# Altium footprint library MCP9808T-E_MS.PcbLib: 2 footprints
Each footprint in its own frame and in the unit in brackets; x right, y up, seen from the top. Pads: shape width x height; smd on the part's side, far side on the other; paste and mask are expansions set on the pad; w line width, h text height; cw(c..) or ccw(c..) is an arc to the next point about the centre after c.
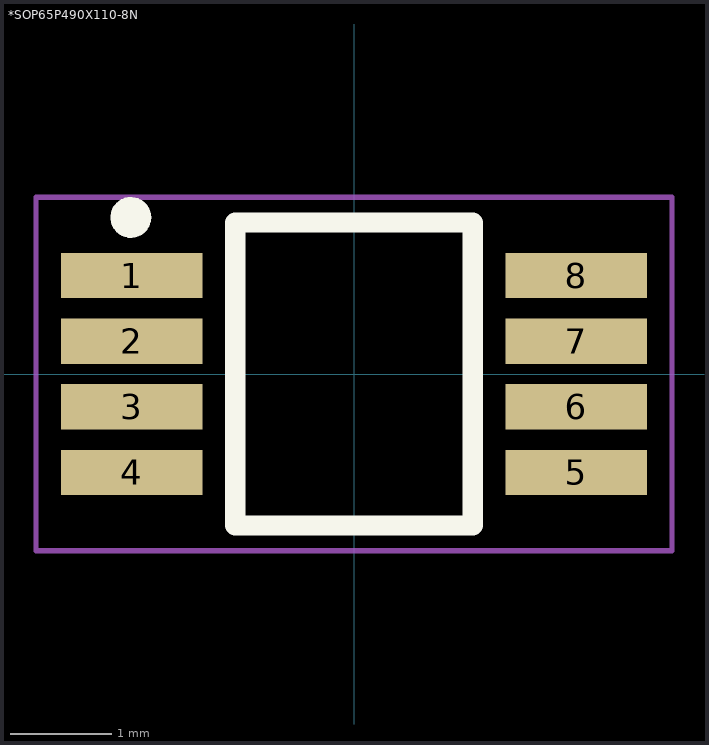
[diagram p0: the footprints below, top view; thin cyan lines are the x and y axes]

## *SOP65P490X110-8N [mm]
pads (8):
  rect 1.4x0.45 smd: 1(-2.2,0.975) 2(-2.2,0.325) 3(-2.2,-0.325) 4(-2.2,-0.975) 5(2.2,-0.975) 6(2.2,-0.325) 7(2.2,0.325) 8(2.2,0.975)
Top Overlay:
  circle w0.05: c-2.21,1.55 r0.178
  circle w0.05: c-2.23,1.57 r0.036
  circle w0.05: c-2.2,1.54 r0.04
  circle w0.05: c-2.21,1.55 r0.058
  circle w0.05: c-2.21,1.55 r0.067
  circle w0.05: c-2.21,1.55 r0.089
  circle w0.05: c-2.21,1.55 r0.108
  circle w0.05: c-2.21,1.55 r0.141
  lines w0.2: -1.175,-1.5 1.175,-1.5 1.175,1.5 -1.175,1.5 -1.175,-1.5
Mechanical 16:
  lines w0.05: -3.15,-1.75 -3.15,1.75 3.15,1.75 3.15,-1.75 -3.15,-1.75

## PCBComponent_1 [mm]